# EAGLE library part INA117 (library burr-brown)
Difference Amplifier High Common-Mode Voltage
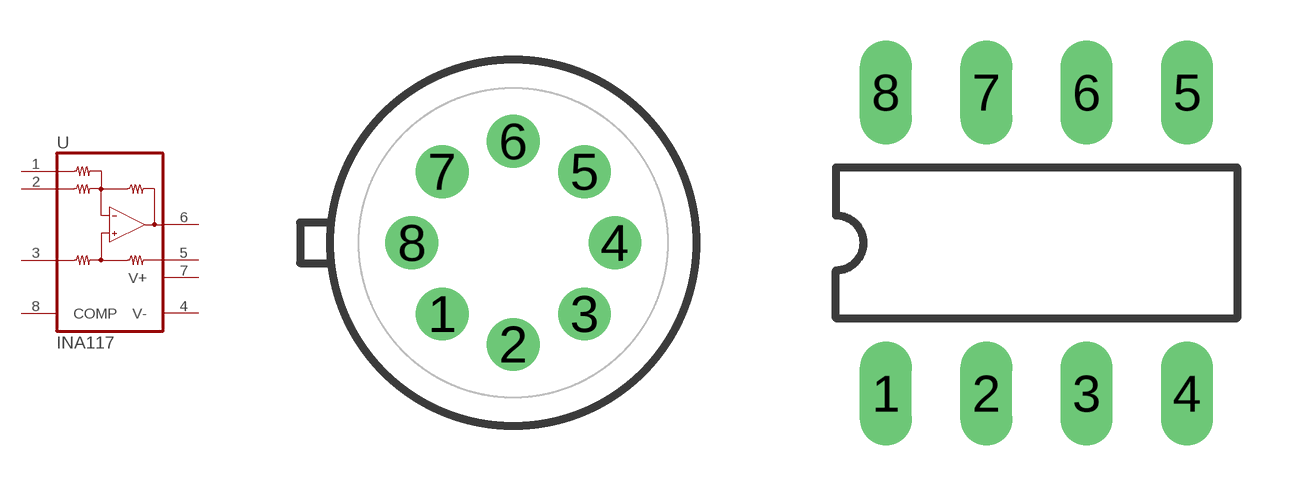
[diagram p152: symbol with the pads of TO99; footprints TO99, DIL08]

Designator prefix U

## INA117M  [TO99]
1  REFB  in
2  -IN  in
3  +IN  in
4  V-  pwr
5  REFA  in
6  OUT  out
7  V+  pwr
8  COMP  pas

## INA117P  [DIL08]
Pads as for TO99

## INA117U  [SO08]
Pads as for TO99

## Footprint TO99 (pad centres in mm)
Metal can Package
drill 0.813: 1 -1.778,-1.778; 2 0,-2.54; 3 1.778,-1.778; 4 2.54,0; 5 1.778,1.778; 6 0,2.54; 7 -1.778,1.778; 8 -2.54,0

## Footprint DIL08 (pad centres in mm)
Dual In Line Package
drill 0.813 long: 1 -3.81,-3.81; 2 -1.27,-3.81; 3 1.27,-3.81; 4 3.81,-3.81; 5 3.81,3.81; 6 1.27,3.81; 7 -1.27,3.81; 8 -3.81,3.81

## Footprint SO08 (pad centres in mm)
SMALL OUTLINE INTEGRATED CIRCUIT body 3.9 mm/JEDEC MS-012AA
smd 0.6 x 2.2: 1 -1.905,-2.6; 2 -0.635,-2.6; 3 0.635,-2.6; 4 1.905,-2.6; 5 1.905,2.6; 6 0.635,2.6; 7 -0.635,2.6; 8 -1.905,2.6